# Altium schematic symbol library STPS20200CTN.SchLib: 1 symbol
Pins are listed as number, name and electrical type; pins without a type are passive.

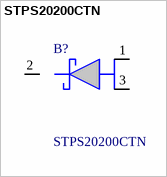
[diagram p0: symbol STPS20200CTN]

## STPS20200CTN
designator B?
STMicroelectronics 200V 30A, Dual Diode, 3-Pin TO-220AB STPS20200CTN; Geometry.Height: 4.6mm; Manufacturer_Name: STMicroelectronics; Manufacturer_Part_Number: STPS20200CTN; Mouser Part Number: *; Mouser Price/Stock: *; Arrow Part Number: *; Arrow Price/Stock: *; Datasheet Link: http://www.st.com/web/en/resource/technical/document/datasheet/DM00079941.pdf
footprint TO255P460X1020X1905-3P
pins: 1 A1, 2 K, 3 A2